# Altium footprint library HDRV3W64P0X254_1X3_762X250X724P.PcbLib: 1 footprints
Each footprint in its own frame and in the unit in brackets; x right, y up, seen from the top. Pads: shape width x height; smd on the part's side, far side on the other; paste and mask are expansions set on the pad; w line width, h text height; cw(c..) or ccw(c..) is an arc to the next point about the centre after c.
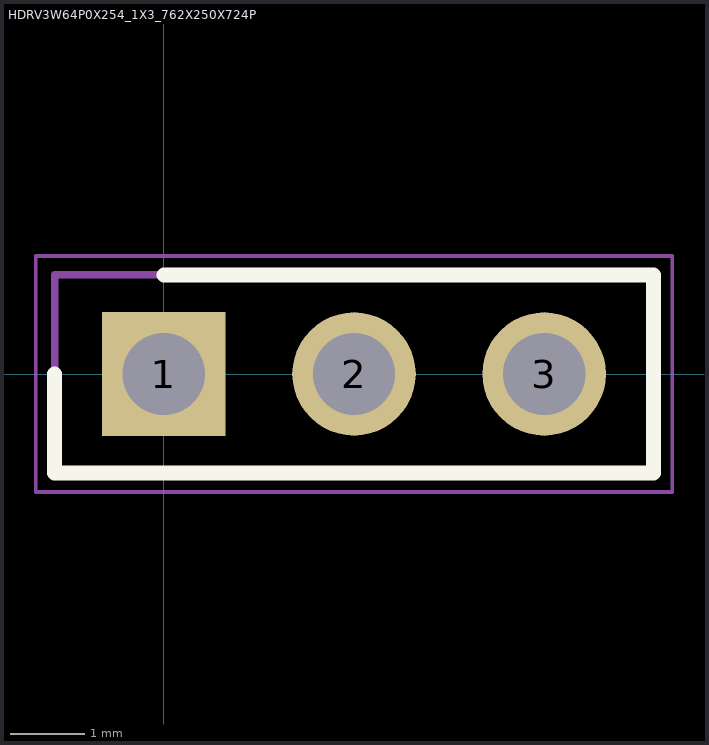
[diagram p0: the footprint, top view; thin cyan lines are the x and y axes]

## HDRV3W64P0X254_1X3_762X250X724P [mm]
pads (3):
  rect 1.65x1.65 / inner round 1.65 / far side rect 1.65x1.65 hole 1.1: 1(0,0)
  round 1.65 hole 1.1: 2(2.54,0) 3(5.08,0)
Top Overlay:
  lines w0.2: -1.46,0 -1.46,-1.325 6.54,-1.325 6.54,1.325 0,1.325
Mechanical 15:
  lines w0.1: -1.46,-1.325 -1.46,1.325 6.54,1.325 6.54,-1.325 -1.46,-1.325
Mechanical 20:
  lines w0.05: -1.71,-1.575 -1.71,1.575 6.79,1.575 6.79,-1.575 -1.71,-1.575